# Altium schematic symbol library Wurth_Elektronik_Electromechanic_Wire_to_Board_Connectors_rev16a.SCHLIB: 662 symbols (part 5 of 10)
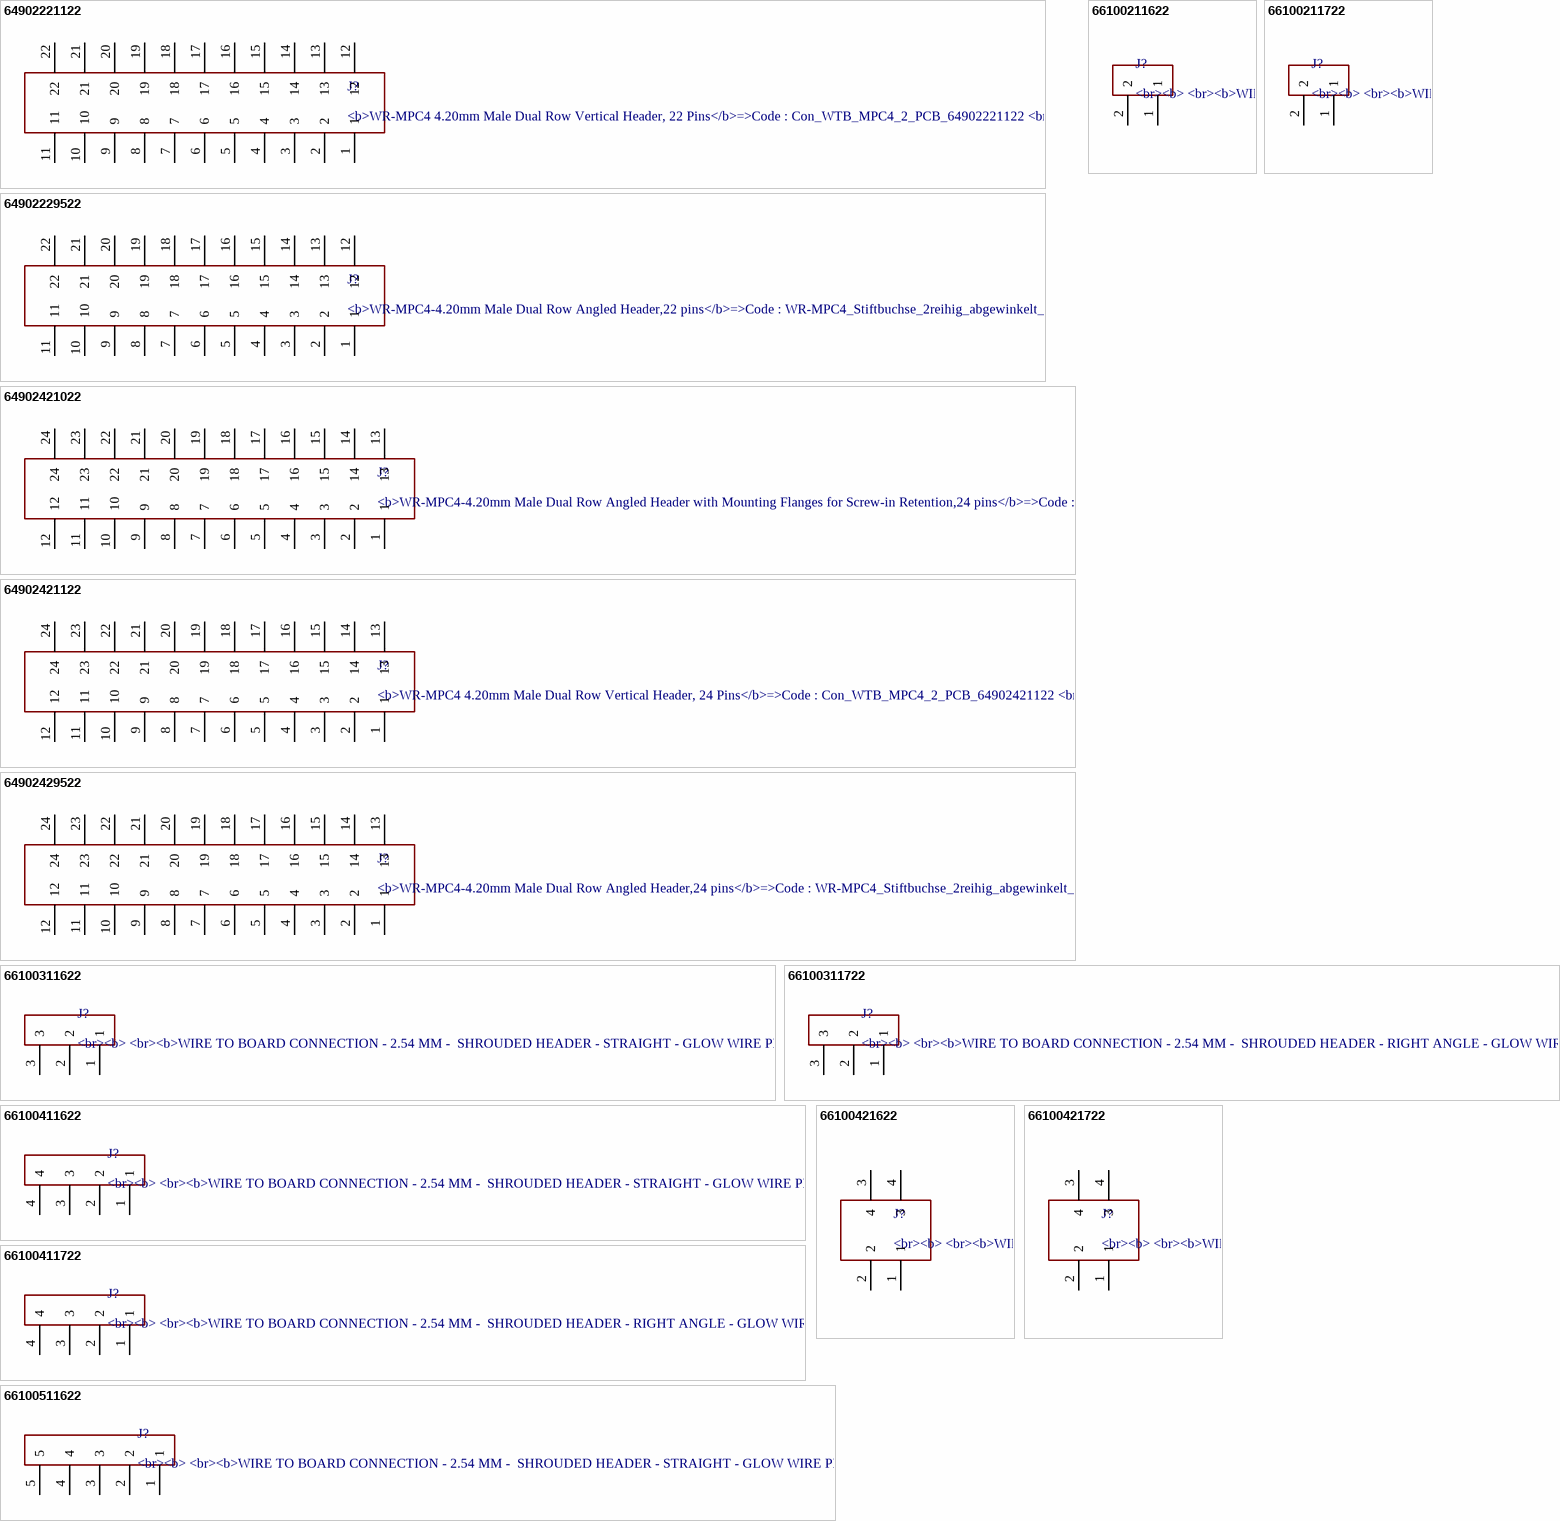
[diagram p66: symbols 64902221122 to 66100511622]

## 64902221122
designator J?, comment <b>WR-MPC4 4.20mm Male Dual Row Vertical Header, 22 Pins</b>=>Code : Con_WTB_MPC4_2_PCB_64902221122 / <br><a href="http://katalog.we-online.de/media/thumbs2/eican/thb_Con_WTB_MPC4_2_PCB_6490xx21122_pf2.jpg" title="Enlarge picture"> / <img src="http://katalog.we-online.de/media/thumbs2/eican/thb_Con_WTB_MPC4_2_PCB_6490xx21122_pf2.jpg"  width="320"></a><p> / Details see: <a href="http://katalog.we-online.de/en/em/649_0xx_211_22">http://katalog.we-online.de/en/em/649_0xx_211_22</a><p> / Created 2014-06-06, Karrer Zheng<br> / 2014 (C) Würth Elektronik
footprint 64902221122
pins: 1, 2, 3, 4, 5, 6, 7, 8, 9, 10, 11, 12, 13, 14, 15, 16, 17, 18, 19, 20, 21, 22

## 64902229522
designator J?, comment <b>WR-MPC4-4.20mm Male Dual Row Angled Header,22 pins</b>=>Code : WR-MPC4_Stiftbuchse_2reihig_abgewinkelt_64902229522 / <br><a href="http://katalog.we-online.de/media/thumbs2/eican/thb_WR-MPC4_Stiftbuchse_2reihig_abgewinkelt_64901029522.jpg" title="Enlarge picture"> / <img src="http://katalog.we-online.de/media/thumbs2/eican/thb_WR-MPC4_Stiftbuchse_2reihig_abgewinkelt_64901029522.jpg"  width="320"></a><p> / Details see: <a href="http://katalog.we-online.de/en/em/649_0xx_295_22">http://katalog.we-online.de/en/em/649_0xx_295_22</a><p> / Created 2014-06-06, Karrer Zheng<br> / 2014 (C) Würth Elektronik
footprint 64902229522
pins: 1, 2, 3, 4, 5, 6, 7, 8, 9, 10, 11, 12, 13, 14, 15, 16, 17, 18, 19, 20, 21, 22

## 64902421022
designator J?, comment <b>WR-MPC4-4.20mm Male Dual Row Angled Header with Mounting Flanges for Screw-in Retention,24 pins</b>=>Code : Con_WTB_MPC4_2_PCB_64902421022 / <br><a href="http://katalog.we-online.de/media/thumbs2/eican/thb_Con_WTB_MPC4_2_PCB_6490xx21022_pf2.jpg" title="Enlarge picture"> / <img src="http://katalog.we-online.de/media/thumbs2/eican/thb_Con_WTB_MPC4_2_PCB_6490xx21022_pf2.jpg"  width="320"></a><p> / Details see: <a href="http://katalog.we-online.de/en/em/649_0xx_210_22">http://katalog.we-online.de/en/em/649_0xx_210_22</a><p> / Created 2014-06-06, Karrer Zheng<br> / 2014 (C) Würth Elektronik
footprint 64902421022
pins: 1, 2, 3, 4, 5, 6, 7, 8, 9, 10, 11, 12, 13, 14, 15, 16, 17, 18, 19, 20, 21, 22, 23, 24

## 64902421122
designator J?, comment <b>WR-MPC4 4.20mm Male Dual Row Vertical Header, 24 Pins</b>=>Code : Con_WTB_MPC4_2_PCB_64902421122 / <br><a href="http://katalog.we-online.de/media/thumbs2/eican/thb_Con_WTB_MPC4_2_PCB_6490xx21122_pf2.jpg" title="Enlarge picture"> / <img src="http://katalog.we-online.de/media/thumbs2/eican/thb_Con_WTB_MPC4_2_PCB_6490xx21122_pf2.jpg"  width="320"></a><p> / Details see: <a href="http://katalog.we-online.de/en/em/649_0xx_211_22">http://katalog.we-online.de/en/em/649_0xx_211_22</a><p> / Created 2014-06-06, Karrer Zheng<br> / 2014 (C) Würth Elektronik
footprint 64902421122
pins: 1, 2, 3, 4, 5, 6, 7, 8, 9, 10, 11, 12, 13, 14, 15, 16, 17, 18, 19, 20, 21, 22, 23, 24

## 64902429522
designator J?, comment <b>WR-MPC4-4.20mm Male Dual Row Angled Header,24 pins</b>=>Code : WR-MPC4_Stiftbuchse_2reihig_abgewinkelt_64902429522 / <br><a href="http://katalog.we-online.de/media/thumbs2/eican/thb_WR-MPC4_Stiftbuchse_2reihig_abgewinkelt_64901029522.jpg" title="Enlarge picture"> / <img src="http://katalog.we-online.de/media/thumbs2/eican/thb_WR-MPC4_Stiftbuchse_2reihig_abgewinkelt_64901029522.jpg"  width="320"></a><p> / Details see: <a href="http://katalog.we-online.de/en/em/649_0xx_295_22">http://katalog.we-online.de/en/em/649_0xx_295_22</a><p> / Created 2014-06-06, Karrer Zheng<br> / 2014 (C) Würth Elektronik
footprint 64902429522
pins: 1, 2, 3, 4, 5, 6, 7, 8, 9, 10, 11, 12, 13, 14, 15, 16, 17, 18, 19, 20, 21, 22, 23, 24

## 66100211622
designator J?, comment <br><b> <br><b>WIRE TO BOARD CONNECTION - 2.54 MM - / SHROUDED HEADER - STRAIGHT - GLOW WIRE PLASTIC - WR-WTB<br></b>=>ConWTB254 66100211622 / <br> / <br> / <br><b> Characteristics / <br><br></b></b>INSULATOR: PA46G15 / <br>FLAMMABILITY RATING: UL94V0 / <br>COLOR: BLACK / <br>METAL: PHOSPHOR BRONZE / <br>PLATING: TIN OVER Ni / <br>QUALITY CLASS: 25 MATING CYCLES / <br>OPERATING TEMPERATURE:-40°C UP TO +125°C / <br>COMPLIANCE: LEAD FREE AND ROHS / <br> / <br> / <br> / <br><b> ELECTRICAL / <br><br></b></b>CURRENT RATING: 3 A / <br>WORKING VOLTAGE: 50 VAC / <br>WITHSTANDING VOLTAGE: 500 VAC/MIN / <br>INSULATION RESISTANCE: >1000 MΩ / <br>CONTACT RESISTANCE: 20 mΩ MAX / <br> / <br><br><a href="http://katalog.we-online.de/media/images/v2/Family_WR-WTB_6610xx11622_2%2054.jpg" title="Enlarge picture"> / <img src="http://katalog.we-online.de/media/images/v2/Family_WR-WTB_6610xx11622_2%2054.jpg"  width="320"></a><p> / <br> / Details see: <a href="http://katalog.we-online.de/en/em/WTB_2_54_MALE_HORIZONTAL_SHROUDED_HEADER_GLOW_WIRE_PLASTIC_6610XXX1622">http://katalog.we-online.de/en/em/WTB_2_54_MALE_HORIZONTAL_SHROUDED_HEADER_GLOW_WIRE_PLASTIC_6610XXX1622</a><p> / <br></b>2015 (C) Wurth Elektronik
footprint 66100211622
pins: 1, 2

## 66100211722
designator J?, comment <br><b> <br><b>WIRE TO BOARD CONNECTION - 2.54 MM - / SHROUDED HEADER - RIGHT ANGLE - GLOW WIRE PLASTIC - WR-WTB<br></b>=>ConWTB254 66100211722 / <br> / <br> / <br><b> Characteristics / <br><br></b></b>INSULATOR: PA46G15 / <br>FLAMMABILITY RATING: UL94V0 / <br>COLOR: BLACK / <br>METAL: PHOSPHOR BRONZE / <br>PLATING: TIN OVER Ni / <br>QUALITY CLASS: 25 MATING CYCLES / <br>OPERATING TEMPERATURE:-40°C UP TO +125°C / <br>COMPLIANCE: LEAD FREE AND ROHS / <br> / <br> / <br> / <br><b> ELECTRICAL / <br><br></b></b>CURRENT RATING: 3 A / <br>WORKING VOLTAGE: 50 VAC / <br>WITHSTANDING VOLTAGE: 500 VAC/MIN / <br>INSULATION RESISTANCE: >1000 MΩ / <br>CONTACT RESISTANCE: 20 mΩ MAX / <br> / <br> / <br><a href="http://katalog.we-online.de/media/images/v2/Family_WR-WTB_Vertical_Shrouded_Header_6610xx11722_2.jpg" title="Enlarge picture"> / <img src="http://katalog.we-online.de/media/images/v2/Family_WR-WTB_Vertical_Shrouded_Header_6610xx11722_2.jpg"  width="320"></a><p> / Details see: <a href="http://katalog.we-online.de/en/em/WTB_2_54_MALE_VERTICAL_SHROUDED_HEADER_GLOW_WIRE_PLASTIC_6610XXX1722">http://katalog.we-online.de/en/em/WTB_2_54_MALE_VERTICAL_SHROUDED_HEADER_GLOW_WIRE_PLASTIC_6610XXX1722</a><p> / <br></b>2015 (C) Wurth Elektronik
footprint 66100211722
pins: 1, 2

## 66100311622
designator J?, comment <br><b> <br><b>WIRE TO BOARD CONNECTION - 2.54 MM - / SHROUDED HEADER - STRAIGHT - GLOW WIRE PLASTIC - WR-WTB<br></b>=>ConWTB254 661003116222 / <br> / <br> / <br><b> Characteristics / <br><br></b></b>INSULATOR: PA46G15 / <br>FLAMMABILITY RATING: UL94V0 / <br>COLOR: BLACK / <br>METAL: PHOSPHOR BRONZE / <br>PLATING: TIN OVER Ni / <br>QUALITY CLASS: 25 MATING CYCLES / <br>OPERATING TEMPERATURE:-40°C UP TO +125°C / <br>COMPLIANCE: LEAD FREE AND ROHS / <br> / <br> / <br> / <br><b> ELECTRICAL / <br><br></b></b>CURRENT RATING: 3 A / <br>WORKING VOLTAGE: 50 VAC / <br>WITHSTANDING VOLTAGE: 500 VAC/MIN / <br>INSULATION RESISTANCE: >1000 MΩ / <br>CONTACT RESISTANCE: 20 mΩ MAX / <br><br><a href="http://katalog.we-online.de/media/images/v2/Family_WR-WTB_6610xx11622_2%2054.jpg" title="Enlarge picture"> / <img src="http://katalog.we-online.de/media/images/v2/Family_WR-WTB_6610xx11622_2%2054.jpg"  width="320"></a><p> / <br> / Details see: <a href="http://katalog.we-online.de/en/em/WTB_2_54_MALE_HORIZONTAL_SHROUDED_HEADER_GLOW_WIRE_PLASTIC_6610XXX1622">http://katalog.we-online.de/en/em/WTB_2_54_MALE_HORIZONTAL_SHROUDED_HEADER_GLOW_WIRE_PLASTIC_6610XXX1622</a><p> / <br></b>2015 (C) Wurth Elektronik
footprint 66100311622
pins: 1, 2, 3

## 66100311722
designator J?, comment <br><b> <br><b>WIRE TO BOARD CONNECTION - 2.54 MM - / SHROUDED HEADER - RIGHT ANGLE - GLOW WIRE PLASTIC - WR-WTB<br></b>=>ConWTB254 66100311722 / <br> / <br> / <br><b> Characteristics / <br><br></b></b>INSULATOR: PA46G15 / <br>FLAMMABILITY RATING: UL94V0 / <br>COLOR: BLACK / <br>METAL: PHOSPHOR BRONZE / <br>PLATING: TIN OVER Ni / <br>QUALITY CLASS: 25 MATING CYCLES / <br>OPERATING TEMPERATURE:-40°C UP TO +125°C / <br>COMPLIANCE: LEAD FREE AND ROHS / <br> / <br> / <br> / <br><b> ELECTRICAL / <br><br></b></b>CURRENT RATING: 3 A / <br>WORKING VOLTAGE: 50 VAC / <br>WITHSTANDING VOLTAGE: 500 VAC/MIN / <br>INSULATION RESISTANCE: >1000 MΩ / <br>CONTACT RESISTANCE: 20 mΩ MAX / <br> / <br> / <br><a href="http://katalog.we-online.de/media/images/v2/Family_WR-WTB_Vertical_Shrouded_Header_6610xx11722_2.jpg" title="Enlarge picture"> / <img src="http://katalog.we-online.de/media/images/v2/Family_WR-WTB_Vertical_Shrouded_Header_6610xx11722_2.jpg"  width="320"></a><p> / Details see: <a href="http://katalog.we-online.de/en/em/WTB_2_54_MALE_VERTICAL_SHROUDED_HEADER_GLOW_WIRE_PLASTIC_6610XXX1722">http://katalog.we-online.de/en/em/WTB_2_54_MALE_VERTICAL_SHROUDED_HEADER_GLOW_WIRE_PLASTIC_6610XXX1722</a><p> / <br></b>2015 (C) Wurth Elektronik
footprint 66100311722
pins: 1, 2, 3

## 66100411622
designator J?, comment <br><b> <br><b>WIRE TO BOARD CONNECTION - 2.54 MM - / SHROUDED HEADER - STRAIGHT - GLOW WIRE PLASTIC - WR-WTB<br></b>=>ConWTB254 661004116222 / <br> / <br> / <br><b> Characteristics / <br><br></b></b>INSULATOR: PA46G15 / <br>FLAMMABILITY RATING: UL94V0 / <br>COLOR: BLACK / <br>METAL: PHOSPHOR BRONZE / <br>PLATING: TIN OVER Ni / <br>QUALITY CLASS: 25 MATING CYCLES / <br>OPERATING TEMPERATURE:-40°C UP TO +125°C / <br>COMPLIANCE: LEAD FREE AND ROHS / <br> / <br> / <br> / <br><b> ELECTRICAL / <br><br></b></b>CURRENT RATING: 3 A / <br>WORKING VOLTAGE: 50 VAC / <br>WITHSTANDING VOLTAGE: 500 VAC/MIN / <br>INSULATION RESISTANCE: >1000 MΩ / <br>CONTACT RESISTANCE: 20 mΩ MAX / <br><br><a href="http://katalog.we-online.de/media/images/v2/Family_WR-WTB_6610xx11622_2%2054.jpg" title="Enlarge picture"> / <img src="http://katalog.we-online.de/media/images/v2/Family_WR-WTB_6610xx11622_2%2054.jpg"  width="320"></a><p> / <br> / <br>Details see: <a href="http://katalog.we-online.de/en/em/WTB_2_54_MALE_HORIZONTAL_SHROUDED_HEADER_GLOW_WIRE_PLASTIC_6610XXX1622">http://katalog.we-online.de/en/em/WTB_2_54_MALE_HORIZONTAL_SHROUDED_HEADER_GLOW_WIRE_PLASTIC_6610XXX1622</a><p> / <br></b>2015 (C) Wurth Elektronik
footprint 66100411622
pins: 1, 2, 3, 4

## 66100411722
designator J?, comment <br><b> <br><b>WIRE TO BOARD CONNECTION - 2.54 MM - / SHROUDED HEADER - RIGHT ANGLE - GLOW WIRE PLASTIC - WR-WTB<br></b>=>ConWTB254 66100411722 / <br> / <br> / <br><b> Characteristics / <br><br></b></b>INSULATOR: PA46G15 / <br>FLAMMABILITY RATING: UL94V0 / <br>COLOR: BLACK / <br>METAL: PHOSPHOR BRONZE / <br>PLATING: TIN OVER Ni / <br>QUALITY CLASS: 25 MATING CYCLES / <br>OPERATING TEMPERATURE:-40°C UP TO +125°C / <br>COMPLIANCE: LEAD FREE AND ROHS / <br> / <br> / <br> / <br><b> ELECTRICAL / <br><br></b></b>CURRENT RATING: 3 A / <br>WORKING VOLTAGE: 50 VAC / <br>WITHSTANDING VOLTAGE: 500 VAC/MIN / <br>INSULATION RESISTANCE: >1000 MΩ / <br>CONTACT RESISTANCE: 20 mΩ MAX / <br> / <br> / <br><a href="http://katalog.we-online.de/media/images/v2/Family_WR-WTB_Vertical_Shrouded_Header_6610xx11722_2.jpg" title="Enlarge picture"> / <img src="http://katalog.we-online.de/media/images/v2/Family_WR-WTB_Vertical_Shrouded_Header_6610xx11722_2.jpg"  width="320"></a><p> / Details see: <a href="http://katalog.we-online.de/en/em/WTB_2_54_MALE_VERTICAL_SHROUDED_HEADER_GLOW_WIRE_PLASTIC_6610XXX1722">http://katalog.we-online.de/en/em/WTB_2_54_MALE_VERTICAL_SHROUDED_HEADER_GLOW_WIRE_PLASTIC_6610XXX1722</a><p> / <br></b>2015 (C) Wurth Elektronik
footprint 66100411722
pins: 1, 2, 3, 4

## 66100421622
designator J?, comment <br><b> <br><b>WIRE TO BOARD CONNECTION - 2.54 MM - / SHROUDED HEADER - STRAIGHT - GLOW WIRE PLASTIC - WR-WTB<br></b>=>ConWTB254 66100421622 / <br> / <br> / <br><b> Characteristics / <br><br></b></b>INSULATOR: PA46G15 / <br>FLAMMABILITY RATING: UL94V0 / <br>COLOR: BLACK / <br>METAL: PHOSPHOR BRONZE / <br>PLATING: TIN OVER Ni / <br>QUALITY CLASS: 25 MATING CYCLES / <br>OPERATING TEMPERATURE:-40°C UP TO +125°C / <br>COMPLIANCE: LEAD FREE AND ROHS / <br> / <br> / <br> / <br><b> ELECTRICAL / <br><br></b></b>CURRENT RATING: 3 A / <br>WORKING VOLTAGE: 50 VAC / <br>WITHSTANDING VOLTAGE: 500 VAC/MIN / <br>INSULATION RESISTANCE: >1000 MΩ / <br>CONTACT RESISTANCE: 20 mΩ MAX / <br> / <br> / <br> / Details see: <a href="http://katalog.we-online.de/en/em/WTB_2_54_MALE_HORIZONTAL_SHROUDED_HEADER_GLOW_WIRE_PLASTIC_6610XXX1622">http://katalog.we-online.de/en/em/WTB_2_54_MALE_HORIZONTAL_SHROUDED_HEADER_GLOW_WIRE_PLASTIC_6610XXX1622</a><p> / <br></b>2015 (C) Wurth Elektronik
footprint 66100421622
pins: 1, 2, 3 4, 4 3

## 66100421722
designator J?, comment <br><b> <br><b>WIRE TO BOARD CONNECTION - 2.54 MM - / SHROUDED HEADER - RIGHT ANGLE - GLOW WIRE PLASTIC - WR-WTB<br></b>=>ConWTB254 66100421722 / <br> / <br> / <br><b> Characteristics / <br><br></b></b>INSULATOR: PA46G15 / <br>FLAMMABILITY RATING: UL94V0 / <br>COLOR: BLACK / <br>METAL: PHOSPHOR BRONZE / <br>PLATING: TIN OVER Ni / <br>QUALITY CLASS: 25 MATING CYCLES / <br>OPERATING TEMPERATURE:-40°C UP TO +125°C / <br>COMPLIANCE: LEAD FREE AND ROHS / <br> / <br> / <br> / <br><b> ELECTRICAL / <br><br></b></b>CURRENT RATING: 3 A / <br>WORKING VOLTAGE: 50 VAC / <br>WITHSTANDING VOLTAGE: 500 VAC/MIN / <br>INSULATION RESISTANCE: >1000 MΩ / <br>CONTACT RESISTANCE: 20 mΩ MAX / <br><a href="http://katalog.we-online.de/media/images/v2/Family_WR-WTB_Vertical_Shrouded_Header_6610xx11722_2.jpg" title="Enlarge picture"> / <img src="http://katalog.we-online.de/media/images/v2/Family_WR-WTB_Vertical_Shrouded_Header_6610xx11722_2.jpg"  width="320"></a><p> / Details see: <a href="http://katalog.we-online.de/en/em/WTB_2_54_MALE_VERTICAL_SHROUDED_HEADER_GLOW_WIRE_PLASTIC_6610XXX1722/66100421722">http://katalog.we-online.de/en/em/WTB_2_54_MALE_VERTICAL_SHROUDED_HEADER_GLOW_WIRE_PLASTIC_6610XXX1722/66100421722</a><p> / <br></b>2015 (C) Wurth Elektronik
footprint 66100421722
pins: 1, 2, 3 4, 4 3

## 66100511622
designator J?, comment <br><b> <br><b>WIRE TO BOARD CONNECTION - 2.54 MM - / SHROUDED HEADER - STRAIGHT - GLOW WIRE PLASTIC - WR-WTB<br></b>=>ConWTB254 661005116222 / <br> / <br> / <br><b> Characteristics / <br><br></b></b>INSULATOR: PA46G15 / <br>FLAMMABILITY RATING: UL94V0 / <br>COLOR: BLACK / <br>METAL: PHOSPHOR BRONZE / <br>PLATING: TIN OVER Ni / <br>QUALITY CLASS: 25 MATING CYCLES / <br>OPERATING TEMPERATURE:-40°C UP TO +125°C / <br>COMPLIANCE: LEAD FREE AND ROHS / <br> / <br> / <br> / <br><b> ELECTRICAL / <br><br></b></b>CURRENT RATING: 3 A / <br>WORKING VOLTAGE: 50 VAC / <br>WITHSTANDING VOLTAGE: 500 VAC/MIN / <br>INSULATION RESISTANCE: >1000 MΩ / <br>CONTACT RESISTANCE: 20 mΩ MAX / <br> / <br><br><a href="http://katalog.we-online.de/media/images/v2/Family_WR-WTB_6610xx11622_2%2054.jpg" title="Enlarge picture"> / <img src="http://katalog.we-online.de/media/images/v2/Family_WR-WTB_6610xx11622_2%2054.jpg"  width="320"></a><p> / <br> / <br> / <br>Details see: <a href="http://katalog.we-online.de/en/em/WTB_2_54_MALE_HORIZONTAL_SHROUDED_HEADER_GLOW_WIRE_PLASTIC_6610XXX1622">http://katalog.we-online.de/en/em/WTB_2_54_MALE_HORIZONTAL_SHROUDED_HEADER_GLOW_WIRE_PLASTIC_6610XXX1622</a><p> / <br></b>2015 (C) Wurth Elektronik
footprint 66100511622
pins: 1, 2, 3, 4, 5

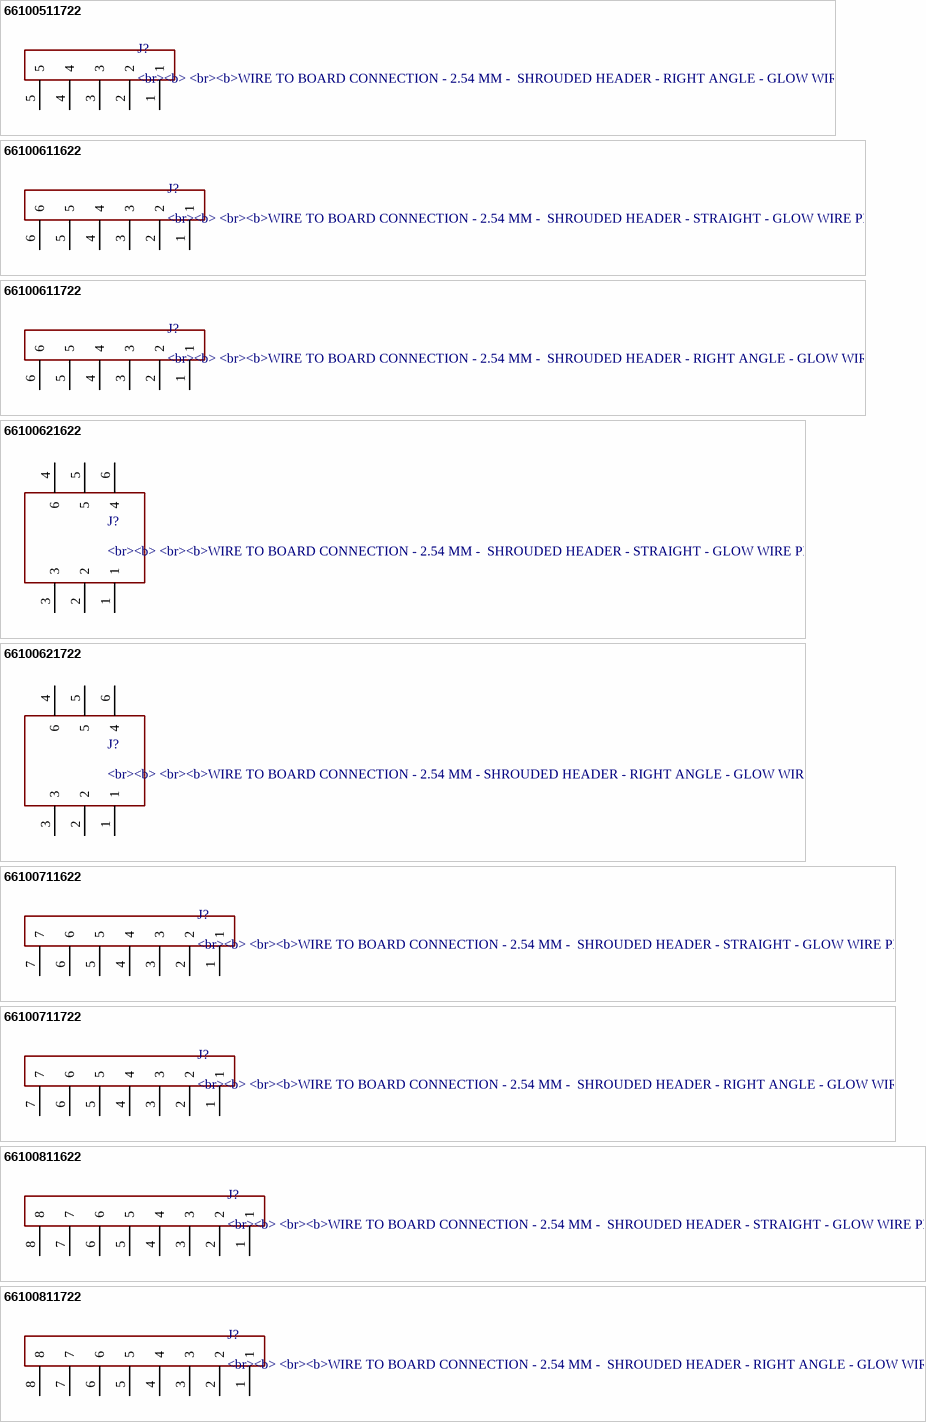
[diagram p29: symbols 66100511722 to 66100811722]

## 66100511722
designator J?, comment <br><b> <br><b>WIRE TO BOARD CONNECTION - 2.54 MM - / SHROUDED HEADER - RIGHT ANGLE - GLOW WIRE PLASTIC - WR-WTB<br></b>=>ConWTB254 66100511722 / <br> / <br> / <br><b> Characteristics / <br><br></b></b>INSULATOR: PA46G15 / <br>FLAMMABILITY RATING: UL94V0 / <br>COLOR: BLACK / <br>METAL: PHOSPHOR BRONZE / <br>PLATING: TIN OVER Ni / <br>QUALITY CLASS: 25 MATING CYCLES / <br>OPERATING TEMPERATURE:-40°C UP TO +125°C / <br>COMPLIANCE: LEAD FREE AND ROHS / <br> / <br> / <br> / <br><b> ELECTRICAL / <br><br></b></b>CURRENT RATING: 3 A / <br>WORKING VOLTAGE: 50 VAC / <br>WITHSTANDING VOLTAGE: 500 VAC/MIN / <br>INSULATION RESISTANCE: >1000 MΩ / <br>CONTACT RESISTANCE: 20 mΩ MAX / <br> / <br> / <br><a href="http://katalog.we-online.de/media/images/v2/Family_WR-WTB_Vertical_Shrouded_Header_6610xx11722_2.jpg" title="Enlarge picture"> / <img src="http://katalog.we-online.de/media/images/v2/Family_WR-WTB_Vertical_Shrouded_Header_6610xx11722_2.jpg"  width="320"></a><p> / Details see: <a href="http://katalog.we-online.de/en/em/WTB_2_54_MALE_VERTICAL_SHROUDED_HEADER_GLOW_WIRE_PLASTIC_6610XXX1722">http://katalog.we-online.de/en/em/WTB_2_54_MALE_VERTICAL_SHROUDED_HEADER_GLOW_WIRE_PLASTIC_6610XXX1722</a><p> / <br></b>2015 (C) Wurth Elektronik
footprint 66100511722
pins: 1, 2, 3, 4, 5

## 66100611622
designator J?, comment <br><b> <br><b>WIRE TO BOARD CONNECTION - 2.54 MM - / SHROUDED HEADER - STRAIGHT - GLOW WIRE PLASTIC - WR-WTB<br></b>=>ConWTB254 661006116222 / <br> / <br> / <br><b> Characteristics / <br><br></b></b>INSULATOR: PA46G15 / <br>FLAMMABILITY RATING: UL94V0 / <br>COLOR: BLACK / <br>METAL: PHOSPHOR BRONZE / <br>PLATING: TIN OVER Ni / <br>QUALITY CLASS: 25 MATING CYCLES / <br>OPERATING TEMPERATURE:-40°C UP TO +125°C / <br>COMPLIANCE: LEAD FREE AND ROHS / <br> / <br> / <br> / <br><b> ELECTRICAL / <br><br></b></b>CURRENT RATING: 3 A / <br>WORKING VOLTAGE: 50 VAC / <br>WITHSTANDING VOLTAGE: 500 VAC/MIN / <br>INSULATION RESISTANCE: >1000 MΩ / <br>CONTACT RESISTANCE: 20 mΩ MAX / <br><br><br><a href="http://katalog.we-online.de/media/images/v2/Family_WR-WTB_6610xx11622_2%2054.jpg" title="Enlarge picture"> / <img src="http://katalog.we-online.de/media/images/v2/Family_WR-WTB_6610xx11622_2%2054.jpg"  width="320"></a><p> / <br> / <br> / <br>Details see: <a href="http://katalog.we-online.de/en/em/WTB_2_54_MALE_HORIZONTAL_SHROUDED_HEADER_GLOW_WIRE_PLASTIC_6610XXX1622">http://katalog.we-online.de/en/em/WTB_2_54_MALE_HORIZONTAL_SHROUDED_HEADER_GLOW_WIRE_PLASTIC_6610XXX1622</a><p> / <br></b>2015 (C) Wurth Elektronik
footprint 66100611622
pins: 1, 2, 3, 4, 5, 6

## 66100611722
designator J?, comment <br><b> <br><b>WIRE TO BOARD CONNECTION - 2.54 MM - / SHROUDED HEADER - RIGHT ANGLE - GLOW WIRE PLASTIC - WR-WTB<br></b>=>ConWTB254 66100611722 / <br> / <br> / <br><b> Characteristics / <br><br></b></b>INSULATOR: PA46G15 / <br>FLAMMABILITY RATING: UL94V0 / <br>COLOR: BLACK / <br>METAL: PHOSPHOR BRONZE / <br>PLATING: TIN OVER Ni / <br>QUALITY CLASS: 25 MATING CYCLES / <br>OPERATING TEMPERATURE:-40°C UP TO +125°C / <br>COMPLIANCE: LEAD FREE AND ROHS / <br> / <br> / <br> / <br><b> ELECTRICAL / <br><br></b></b>CURRENT RATING: 3 A / <br>WORKING VOLTAGE: 50 VAC / <br>WITHSTANDING VOLTAGE: 500 VAC/MIN / <br>INSULATION RESISTANCE: >1000 MΩ / <br>CONTACT RESISTANCE: 20 mΩ MAX / <br> / <br> / <br><a href="http://katalog.we-online.de/media/images/v2/Family_WR-WTB_Vertical_Shrouded_Header_6610xx11722_2.jpg" title="Enlarge picture"> / <img src="http://katalog.we-online.de/media/images/v2/Family_WR-WTB_Vertical_Shrouded_Header_6610xx11722_2.jpg"  width="320"></a><p> / Details see: <a href="http://katalog.we-online.de/en/em/WTB_2_54_MALE_VERTICAL_SHROUDED_HEADER_GLOW_WIRE_PLASTIC_6610XXX1722">http://katalog.we-online.de/en/em/WTB_2_54_MALE_VERTICAL_SHROUDED_HEADER_GLOW_WIRE_PLASTIC_6610XXX1722</a><p> / <br></b>2015 (C) Wurth Elektronik
footprint 66100611722
pins: 1, 2, 3, 4, 5, 6

## 66100621622
designator J?, comment <br><b> <br><b>WIRE TO BOARD CONNECTION - 2.54 MM - / SHROUDED HEADER - STRAIGHT - GLOW WIRE PLASTIC - WR-WTB<br></b>=>ConWTB254 66100621622 / <br> / <br> / <br><b> Characteristics / <br><br></b></b>INSULATOR: PA46G15 / <br>FLAMMABILITY RATING: UL94V0 / <br>COLOR: BLACK / <br>METAL: PHOSPHOR BRONZE / <br>PLATING: TIN OVER Ni / <br>QUALITY CLASS: 25 MATING CYCLES / <br>OPERATING TEMPERATURE:-40°C UP TO +125°C / <br>COMPLIANCE: LEAD FREE AND ROHS / <br> / <br> / <br> / <br><b> ELECTRICAL / <br><br></b></b>CURRENT RATING: 3 A / <br>WORKING VOLTAGE: 50 VAC / <br>WITHSTANDING VOLTAGE: 500 VAC/MIN / <br>INSULATION RESISTANCE: >1000 MΩ / <br>CONTACT RESISTANCE: 20 mΩ MAX / <br> / <br> / <br>Details see: <a href="http://katalog.we-online.de/en/em/WTB_2_54_MALE_HORIZONTAL_SHROUDED_HEADER_GLOW_WIRE_PLASTIC_6610XXX1622">http://katalog.we-online.de/en/em/WTB_2_54_MALE_HORIZONTAL_SHROUDED_HEADER_GLOW_WIRE_PLASTIC_6610XXX1622</a><p> / <br></b>2015 (C) Wurth Elektronik
footprint 66100621622
pins: 1, 2, 3, 4 6, 5, 6 4

## 66100621722
designator J?, comment <br><b> <br><b>WIRE TO BOARD CONNECTION - 2.54 MM - / SHROUDED HEADER - RIGHT ANGLE - GLOW WIRE PLASTIC - WR-WTB<br></b>=>ConWTB254 66100621722 / <br> / <br> / <br><b> Characteristics / <br><br></b></b>INSULATOR: PA46G15 / <br>FLAMMABILITY RATING: UL94V0 / <br>COLOR: BLACK / <br>METAL: PHOSPHOR BRONZE / <br>PLATING: TIN OVER Ni / <br>QUALITY CLASS: 25 MATING CYCLES / <br>OPERATING TEMPERATURE:-40°C UP TO +125°C / <br>COMPLIANCE: LEAD FREE AND ROHS / <br> / <br> / <br> / <br><b> ELECTRICAL / <br><br></b></b>CURRENT RATING: 3 A / <br>WORKING VOLTAGE: 50 VAC / <br>WITHSTANDING VOLTAGE: 500 VAC/MIN / <br>INSULATION RESISTANCE: >1000 MΩ / <br>CONTACT RESISTANCE: 20 mΩ MAX / <br> / <br> / <br><a href="http://katalog.we-online.de/media/images/v2/Family_WR-WTB_Vertical_Shrouded_Header_6610xx11722_2.jpg" title="Enlarge picture"> / <img src="http://katalog.we-online.de/media/images/v2/Family_WR-WTB_Vertical_Shrouded_Header_6610xx11722_2.jpg"  width="320"></a><p> / Details see: <a href="http://katalog.we-online.de/en/em/WTB_2_54_MALE_VERTICAL_SHROUDED_HEADER_GLOW_WIRE_PLASTIC_6610XXX1722">http://katalog.we-online.de/en/em/WTB_2_54_MALE_VERTICAL_SHROUDED_HEADER_GLOW_WIRE_PLASTIC_6610XXX1722</a><p> / <br></b>2015 (C) Wurth Elektronik
footprint 66100621722
pins: 1, 2, 3, 4 6, 5, 6 4

## 66100711622
designator J?, comment <br><b> <br><b>WIRE TO BOARD CONNECTION - 2.54 MM - / SHROUDED HEADER - STRAIGHT - GLOW WIRE PLASTIC - WR-WTB<br></b>=>ConWTB254 661007116222 / <br> / <br> / <br><b> Characteristics / <br><br></b></b>INSULATOR: PA46G15 / <br>FLAMMABILITY RATING: UL94V0 / <br>COLOR: BLACK / <br>METAL: PHOSPHOR BRONZE / <br>PLATING: TIN OVER Ni / <br>QUALITY CLASS: 25 MATING CYCLES / <br>OPERATING TEMPERATURE:-40°C UP TO +125°C / <br>COMPLIANCE: LEAD FREE AND ROHS / <br> / <br> / <br> / <br><b> ELECTRICAL / <br><br></b></b>CURRENT RATING: 3 A / <br>WORKING VOLTAGE: 50 VAC / <br>WITHSTANDING VOLTAGE: 500 VAC/MIN / <br>INSULATION RESISTANCE: >1000 MΩ / <br>CONTACT RESISTANCE: 20 mΩ MAX / <br> / <br><br><br><a href="http://katalog.we-online.de/media/images/v2/Family_WR-WTB_6610xx11622_2%2054.jpg" title="Enlarge picture"> / <img src="http://katalog.we-online.de/media/images/v2/Family_WR-WTB_6610xx11622_2%2054.jpg"  width="320"></a><p> / <br> / <br>Details see: <a href="http://katalog.we-online.de/en/em/WTB_2_54_MALE_HORIZONTAL_SHROUDED_HEADER_GLOW_WIRE_PLASTIC_6610XXX1622">http://katalog.we-online.de/en/em/WTB_2_54_MALE_HORIZONTAL_SHROUDED_HEADER_GLOW_WIRE_PLASTIC_6610XXX1622</a><p> / <br></b>2015 (C) Wurth Elektronik
footprint 66100711622
pins: 1, 2, 3, 4, 5, 6, 7

## 66100711722
designator J?, comment <br><b> <br><b>WIRE TO BOARD CONNECTION - 2.54 MM - / SHROUDED HEADER - RIGHT ANGLE - GLOW WIRE PLASTIC - WR-WTB<br></b>=>ConWTB254 66100711722 / <br> / <br> / <br><b> Characteristics / <br><br></b></b>INSULATOR: PA46G15 / <br>FLAMMABILITY RATING: UL94V0 / <br>COLOR: BLACK / <br>METAL: PHOSPHOR BRONZE / <br>PLATING: TIN OVER Ni / <br>QUALITY CLASS: 25 MATING CYCLES / <br>OPERATING TEMPERATURE:-40°C UP TO +125°C / <br>COMPLIANCE: LEAD FREE AND ROHS / <br> / <br> / <br> / <br><b> ELECTRICAL / <br><br></b></b>CURRENT RATING: 3 A / <br>WORKING VOLTAGE: 50 VAC / <br>WITHSTANDING VOLTAGE: 500 VAC/MIN / <br>INSULATION RESISTANCE: >1000 MΩ / <br>CONTACT RESISTANCE: 20 mΩ MAX / <br></b>2015 (C) Wurth Elektronik / <br><br></b></b>CURRENT RATING: 3 A / <br>WITHSTANDING VOLTAGE: 500 VAC / <br>CONTACT RESISTANCE: 20 mΩ MAX / <br> / <br> / <br><a href="http://katalog.we-online.de/media/images/v2/Family_WR-WTB_Vertical_Shrouded_Header_6610xx11722_2.jpg" title="Enlarge picture"> / <img src="http://katalog.we-online.de/media/images/v2/Family_WR-WTB_Vertical_Shrouded_Header_6610xx11722_2.jpg"  width="320"></a><p> / Details see: <a href="http://katalog.we-online.de/en/em/WTB_2_54_MALE_VERTICAL_SHROUDED_HEADER_GLOW_WIRE_PLASTIC_6610XXX1722">http://katalog.we-online.de/en/em/WTB_2_54_MALE_VERTICAL_SHROUDED_HEADER_GLOW_WIRE_PLASTIC_6610XXX1722</a><p> / <br></b>2015 (C) Wurth Elektronik
footprint 66100711722
pins: 1, 2, 3, 4, 5, 6, 7

## 66100811622
designator J?, comment <br><b> <br><b>WIRE TO BOARD CONNECTION - 2.54 MM - / SHROUDED HEADER - STRAIGHT - GLOW WIRE PLASTIC - WR-WTB<br></b>=>ConWTB254 661008116222 / <br> / <br> / <br><b> Characteristics / <br><br></b></b>INSULATOR: PA46G15 / <br>FLAMMABILITY RATING: UL94V0 / <br>COLOR: BLACK / <br>METAL: PHOSPHOR BRONZE / <br>PLATING: TIN OVER Ni / <br>QUALITY CLASS: 25 MATING CYCLES / <br>OPERATING TEMPERATURE:-40°C UP TO +125°C / <br>COMPLIANCE: LEAD FREE AND ROHS / <br> / <br> / <br> / <br><b> ELECTRICAL / <br><br></b></b>CURRENT RATING: 3 A / <br>WORKING VOLTAGE: 50 VAC / <br>WITHSTANDING VOLTAGE: 500 VAC/MIN / <br>INSULATION RESISTANCE: >1000 MΩ / <br>CONTACT RESISTANCE: 20 mΩ MAX / <br><br><br><a href="http://katalog.we-online.de/media/images/v2/Family_WR-WTB_6610xx11622_2%2054.jpg" title="Enlarge picture"> / <img src="http://katalog.we-online.de/media/images/v2/Family_WR-WTB_6610xx11622_2%2054.jpg"  width="320"></a><p> / <br> / <br> / <br>Details see: <a href="http://katalog.we-online.de/en/em/WTB_2_54_MALE_HORIZONTAL_SHROUDED_HEADER_GLOW_WIRE_PLASTIC_6610XXX1622">http://katalog.we-online.de/en/em/WTB_2_54_MALE_HORIZONTAL_SHROUDED_HEADER_GLOW_WIRE_PLASTIC_6610XXX1622</a><p> / <br></b>2015 (C) Wurth Elektronik
footprint 66100811622
pins: 1, 2, 3, 4, 5, 6, 7, 8

## 66100811722
designator J?, comment <br><b> <br><b>WIRE TO BOARD CONNECTION - 2.54 MM - / SHROUDED HEADER - RIGHT ANGLE - GLOW WIRE PLASTIC - WR-WTB<br></b>=>ConWTB254 66100811722 / <br> / <br> / <br><b> Characteristics / <br><br></b></b>INSULATOR: PA46G15 / <br>FLAMMABILITY RATING: UL94V0 / <br>COLOR: BLACK / <br>METAL: PHOSPHOR BRONZE / <br>PLATING: TIN OVER Ni / <br>QUALITY CLASS: 25 MATING CYCLES / <br>OPERATING TEMPERATURE:-40°C UP TO +125°C / <br>COMPLIANCE: LEAD FREE AND ROHS / <br> / <br> / <br> / <br><b> ELECTRICAL / <br><br></b></b>CURRENT RATING: 3 A / <br>WORKING VOLTAGE: 50 VAC / <br>WITHSTANDING VOLTAGE: 500 VAC/MIN / <br>INSULATION RESISTANCE: >1000 MΩ / <br>CONTACT RESISTANCE: 20 mΩ MAX / <br> / <br> / <br><a href="http://katalog.we-online.de/media/images/v2/Family_WR-WTB_Vertical_Shrouded_Header_6610xx11722_2.jpg" title="Enlarge picture"> / <img src="http://katalog.we-online.de/media/images/v2/Family_WR-WTB_Vertical_Shrouded_Header_6610xx11722_2.jpg"  width="320"></a><p> / Details see: <a href="http://katalog.we-online.de/en/em/WTB_2_54_MALE_VERTICAL_SHROUDED_HEADER_GLOW_WIRE_PLASTIC_6610XXX1722">http://katalog.we-online.de/en/em/WTB_2_54_MALE_VERTICAL_SHROUDED_HEADER_GLOW_WIRE_PLASTIC_6610XXX1722</a><p> / <br></b>2015 (C) Wurth Elektronik
footprint 66100811722
pins: 1, 2, 3, 4, 5, 6, 7, 8

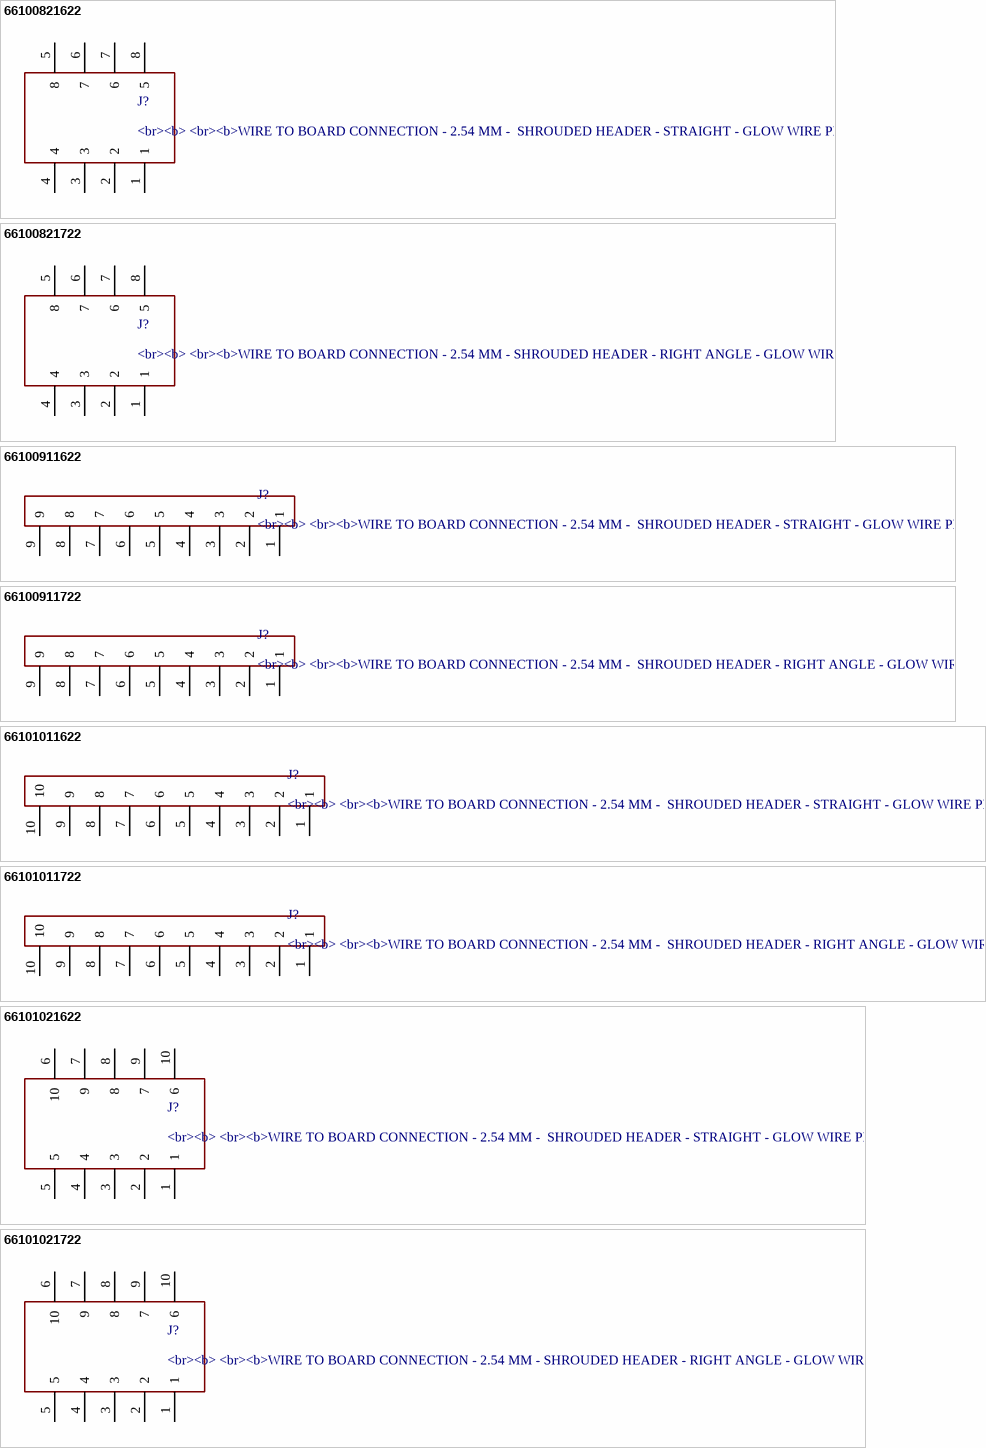
[diagram p30: symbols 66100821622 to 66101021722]

## 66100821622
designator J?, comment <br><b> <br><b>WIRE TO BOARD CONNECTION - 2.54 MM - / SHROUDED HEADER - STRAIGHT - GLOW WIRE PLASTIC - WR-WTB<br></b>=>ConWTB254 66100821622 / <br> / <br> / <br><b> Characteristics / <br><br></b></b>INSULATOR: PA46G15 / <br>FLAMMABILITY RATING: UL94V0 / <br>COLOR: BLACK / <br>METAL: PHOSPHOR BRONZE / <br>PLATING: TIN OVER Ni / <br>QUALITY CLASS: 25 MATING CYCLES / <br>OPERATING TEMPERATURE:-40°C UP TO +125°C / <br>COMPLIANCE: LEAD FREE AND ROHS / <br> / <br> / <br> / <br><b> ELECTRICAL / <br><br></b></b>CURRENT RATING: 3 A / <br>WORKING VOLTAGE: 50 VAC / <br>WITHSTANDING VOLTAGE: 500 VAC/MIN / <br>INSULATION RESISTANCE: >1000 MΩ / <br>CONTACT RESISTANCE: 20 mΩ MAX / <br> / <br><br><br><a href="http://katalog.we-online.de/media/images/v2/Family_WR-WTB_6610xx11622_2%2054.jpg" title="Enlarge picture"> / <img src="http://katalog.we-online.de/media/images/v2/Family_WR-WTB_6610xx11622_2%2054.jpg"  width="320"></a><p> / <br> / <br>Details see: <a href="http://katalog.we-online.de/en/em/WTB_2_54_MALE_HORIZONTAL_SHROUDED_HEADER_GLOW_WIRE_PLASTIC_6610XXX1622">http://katalog.we-online.de/en/em/WTB_2_54_MALE_HORIZONTAL_SHROUDED_HEADER_GLOW_WIRE_PLASTIC_6610XXX1622</a><p> / <br></b>2015 (C) Wurth Elektronik
footprint 66100821622
pins: 1, 2, 3, 4, 5 8, 6 7, 7 6, 8 5

## 66100821722
designator J?, comment <br><b> <br><b>WIRE TO BOARD CONNECTION - 2.54 MM - / SHROUDED HEADER - RIGHT ANGLE - GLOW WIRE PLASTIC - WR-WTB<br></b>=>ConWTB254 66100821722 / <br> / <br> / <br><b> Characteristics / <br><br></b></b>INSULATOR: PA46G15 / <br>FLAMMABILITY RATING: UL94V0 / <br>COLOR: BLACK / <br>METAL: PHOSPHOR BRONZE / <br>PLATING: TIN OVER Ni / <br>QUALITY CLASS: 25 MATING CYCLES / <br>OPERATING TEMPERATURE:-40°C UP TO +125°C / <br>COMPLIANCE: LEAD FREE AND ROHS / <br> / <br> / <br> / <br><b> ELECTRICAL / <br><br></b></b>CURRENT RATING: 3 A / <br>WORKING VOLTAGE: 50 VAC / <br>WITHSTANDING VOLTAGE: 500 VAC/MIN / <br>INSULATION RESISTANCE: >1000 MΩ / <br>CONTACT RESISTANCE: 20 mΩ MAX / <br> / <br> / <br><a href="http://katalog.we-online.de/media/images/v2/Family_WR-WTB_Vertical_Shrouded_Header_6610xx11722_2.jpg" title="Enlarge picture"> / <img src="http://katalog.we-online.de/media/images/v2/Family_WR-WTB_Vertical_Shrouded_Header_6610xx11722_2.jpg"  width="320"></a><p> / Details see: <a href="http://katalog.we-online.de/en/em/WTB_2_54_MALE_VERTICAL_SHROUDED_HEADER_GLOW_WIRE_PLASTIC_6610XXX1722">http://katalog.we-online.de/en/em/WTB_2_54_MALE_VERTICAL_SHROUDED_HEADER_GLOW_WIRE_PLASTIC_6610XXX1722</a><p> / <br></b>2015 (C) Wurth Elektronik
footprint 66100821722
pins: 1, 2, 3, 4, 5 8, 6 7, 7 6, 8 5

## 66100911622
designator J?, comment <br><b> <br><b>WIRE TO BOARD CONNECTION - 2.54 MM - / SHROUDED HEADER - STRAIGHT - GLOW WIRE PLASTIC - WR-WTB<br></b>=>ConWTB254 661009116222 / <br> / <br> / <br><b> Characteristics / <br><br></b></b>INSULATOR: PA46G15 / <br>FLAMMABILITY RATING: UL94V0 / <br>COLOR: BLACK / <br>METAL: PHOSPHOR BRONZE / <br>PLATING: TIN OVER Ni / <br>QUALITY CLASS: 25 MATING CYCLES / <br>OPERATING TEMPERATURE:-40°C UP TO +125°C / <br>COMPLIANCE: LEAD FREE AND ROHS / <br> / <br> / <br> / <br><b> ELECTRICAL / <br><br></b></b>CURRENT RATING: 3 A / <br>WORKING VOLTAGE: 50 VAC / <br>WITHSTANDING VOLTAGE: 500 VAC/MIN / <br>INSULATION RESISTANCE: >1000 MΩ / <br>CONTACT RESISTANCE: 20 mΩ MAX / <br> / <br><br><br><a href="http://katalog.we-online.de/media/images/v2/Family_WR-WTB_6610xx11622_2%2054.jpg" title="Enlarge picture"> / <img src="http://katalog.we-online.de/media/images/v2/Family_WR-WTB_6610xx11622_2%2054.jpg"  width="320"></a><p> / <br> / <br>Details see: <a href="http://katalog.we-online.de/en/em/WTB_2_54_MALE_HORIZONTAL_SHROUDED_HEADER_GLOW_WIRE_PLASTIC_6610XXX1622">http://katalog.we-online.de/en/em/WTB_2_54_MALE_HORIZONTAL_SHROUDED_HEADER_GLOW_WIRE_PLASTIC_6610XXX1622</a><p> / <br></b>2015 (C) Wurth Elektronik
footprint 66100911622
pins: 1, 2, 3, 4, 5, 6, 7, 8, 9

## 66100911722
designator J?, comment <br><b> <br><b>WIRE TO BOARD CONNECTION - 2.54 MM - / SHROUDED HEADER - RIGHT ANGLE - GLOW WIRE PLASTIC - WR-WTB<br></b>=>ConWTB254 66100911722 / <br> / <br> / <br><b> Characteristics / <br><br></b></b>INSULATOR: PA46G15 / <br>FLAMMABILITY RATING: UL94V0 / <br>COLOR: BLACK / <br>METAL: PHOSPHOR BRONZE / <br>PLATING: TIN OVER Ni / <br>QUALITY CLASS: 25 MATING CYCLES / <br>OPERATING TEMPERATURE:-40°C UP TO +125°C / <br>COMPLIANCE: LEAD FREE AND ROHS / <br> / <br> / <br> / <br><b> ELECTRICAL / <br><br></b></b>CURRENT RATING: 3 A / <br>WORKING VOLTAGE: 50 VAC / <br>WITHSTANDING VOLTAGE: 500 VAC/MIN / <br>INSULATION RESISTANCE: >1000 MΩ / <br>CONTACT RESISTANCE: 20 mΩ MAX / <br> / <br> / <br><a href="http://katalog.we-online.de/media/images/v2/Family_WR-WTB_Vertical_Shrouded_Header_6610xx11722_2.jpg" title="Enlarge picture"> / <img src="http://katalog.we-online.de/media/images/v2/Family_WR-WTB_Vertical_Shrouded_Header_6610xx11722_2.jpg"  width="320"></a><p> / Details see: <a href="http://katalog.we-online.de/en/em/WTB_2_54_MALE_VERTICAL_SHROUDED_HEADER_GLOW_WIRE_PLASTIC_6610XXX1722">http://katalog.we-online.de/en/em/WTB_2_54_MALE_VERTICAL_SHROUDED_HEADER_GLOW_WIRE_PLASTIC_6610XXX1722</a><p> / <br></b>2015 (C) Wurth Elektronik
footprint 66100911722
pins: 1, 2, 3, 4, 5, 6, 7, 8, 9

## 66101011622
designator J?, comment <br><b> <br><b>WIRE TO BOARD CONNECTION - 2.54 MM - / SHROUDED HEADER - STRAIGHT - GLOW WIRE PLASTIC - WR-WTB<br></b>=>ConWTB254 661010116222 / <br> / <br> / <br><b> Characteristics / <br><br></b></b>INSULATOR: PA46G15 / <br>FLAMMABILITY RATING: UL94V0 / <br>COLOR: BLACK / <br>METAL: PHOSPHOR BRONZE / <br>PLATING: TIN OVER Ni / <br>QUALITY CLASS: 25 MATING CYCLES / <br>OPERATING TEMPERATURE:-40°C UP TO +125°C / <br>COMPLIANCE: LEAD FREE AND ROHS / <br> / <br> / <br> / <br><b> ELECTRICAL / <br><br></b></b>CURRENT RATING: 3 A / <br>WORKING VOLTAGE: 50 VAC / <br>WITHSTANDING VOLTAGE: 500 VAC/MIN / <br>INSULATION RESISTANCE: >1000 MΩ / <br>CONTACT RESISTANCE: 20 mΩ MAX / <br> / <br><br><br><a href="http://katalog.we-online.de/media/images/v2/Family_WR-WTB_6610xx11622_2%2054.jpg" title="Enlarge picture"> / <img src="http://katalog.we-online.de/media/images/v2/Family_WR-WTB_6610xx11622_2%2054.jpg"  width="320"></a><p> / <br> / <br>Details see: <a href="http://katalog.we-online.de/en/em/WTB_2_54_MALE_HORIZONTAL_SHROUDED_HEADER_GLOW_WIRE_PLASTIC_6610XXX1622">http://katalog.we-online.de/en/em/WTB_2_54_MALE_HORIZONTAL_SHROUDED_HEADER_GLOW_WIRE_PLASTIC_6610XXX1622</a><p> / <br></b>2015 (C) Wurth Elektronik
footprint 66101011622
pins: 1, 2, 3, 4, 5, 6, 7, 8, 9, 10

## 66101011722
designator J?, comment <br><b> <br><b>WIRE TO BOARD CONNECTION - 2.54 MM - / SHROUDED HEADER - RIGHT ANGLE - GLOW WIRE PLASTIC - WR-WTB<br></b>=>ConWTB254 66101011722 / <br> / <br> / <br><b> Characteristics / <br><br></b></b>INSULATOR: PA46G15 / <br>FLAMMABILITY RATING: UL94V0 / <br>COLOR: BLACK / <br>METAL: PHOSPHOR BRONZE / <br>PLATING: TIN OVER Ni / <br>QUALITY CLASS: 25 MATING CYCLES / <br>OPERATING TEMPERATURE:-40°C UP TO +125°C / <br>COMPLIANCE: LEAD FREE AND ROHS / <br> / <br> / <br> / <br><b> ELECTRICAL / <br><br></b></b>CURRENT RATING: 3 A / <br>WORKING VOLTAGE: 50 VAC / <br>WITHSTANDING VOLTAGE: 500 VAC/MIN / <br>INSULATION RESISTANCE: >1000 MΩ / <br>CONTACT RESISTANCE: 20 mΩ MAX / <br> / <br> / <br><a href="http://katalog.we-online.de/media/images/v2/Family_WR-WTB_Vertical_Shrouded_Header_6610xx11722_2.jpg" title="Enlarge picture"> / <img src="http://katalog.we-online.de/media/images/v2/Family_WR-WTB_Vertical_Shrouded_Header_6610xx11722_2.jpg"  width="320"></a><p> / Details see: <a href="http://katalog.we-online.de/en/em/WTB_2_54_MALE_VERTICAL_SHROUDED_HEADER_GLOW_WIRE_PLASTIC_6610XXX1722">http://katalog.we-online.de/en/em/WTB_2_54_MALE_VERTICAL_SHROUDED_HEADER_GLOW_WIRE_PLASTIC_6610XXX1722</a><p> / <br></b>2015 (C) Wurth Elektronik
footprint 66101011722
pins: 1, 2, 3, 4, 5, 6, 7, 8, 9, 10

## 66101021622
designator J?, comment <br><b> <br><b>WIRE TO BOARD CONNECTION - 2.54 MM - / SHROUDED HEADER - STRAIGHT - GLOW WIRE PLASTIC - WR-WTB<br></b>=>ConWTB254 66101021622 / <br> / <br> / <br><b> Characteristics / <br><br></b></b>INSULATOR: PA46G15 / <br>FLAMMABILITY RATING: UL94V0 / <br>COLOR: BLACK / <br>METAL: PHOSPHOR BRONZE / <br>PLATING: TIN OVER Ni / <br>QUALITY CLASS: 25 MATING CYCLES / <br>OPERATING TEMPERATURE:-40°C UP TO +125°C / <br>COMPLIANCE: LEAD FREE AND ROHS / <br> / <br> / <br> / <br><b> ELECTRICAL / <br><br></b></b>CURRENT RATING: 3 A / <br>WORKING VOLTAGE: 50 VAC / <br>WITHSTANDING VOLTAGE: 500 VAC/MIN / <br>INSULATION RESISTANCE: >1000 MΩ / <br>CONTACT RESISTANCE: 20 mΩ MAX / <br><br><br><a href="http://katalog.we-online.de/media/images/v2/Family_WR-WTB_6610xx11622_2%2054.jpg" title="Enlarge picture"> / <img src="http://katalog.we-online.de/media/images/v2/Family_WR-WTB_6610xx11622_2%2054.jpg"  width="320"></a><p> / <br> / <br> / <br>Details see: <a href="http://katalog.we-online.de/en/em/WTB_2_54_MALE_HORIZONTAL_SHROUDED_HEADER_GLOW_WIRE_PLASTIC_6610XXX1622">http://katalog.we-online.de/en/em/WTB_2_54_MALE_HORIZONTAL_SHROUDED_HEADER_GLOW_WIRE_PLASTIC_6610XXX1622</a><p> / <br></b>2015 (C) Wurth Elektronik
footprint 66101021622
pins: 1, 2, 3, 4, 5, 6 10, 7 9, 8, 9 7, 10 6

## 66101021722
designator J?, comment <br><b> <br><b>WIRE TO BOARD CONNECTION - 2.54 MM - / SHROUDED HEADER - RIGHT ANGLE - GLOW WIRE PLASTIC - WR-WTB<br></b>=>ConWTB254 66101021722 / <br> / <br> / <br><b> Characteristics / <br><br></b></b>INSULATOR: PA46G15 / <br>FLAMMABILITY RATING: UL94V0 / <br>COLOR: BLACK / <br>METAL: PHOSPHOR BRONZE / <br>PLATING: TIN OVER Ni / <br>QUALITY CLASS: 25 MATING CYCLES / <br>OPERATING TEMPERATURE:-40°C UP TO +125°C / <br>COMPLIANCE: LEAD FREE AND ROHS / <br> / <br> / <br> / <br><b> ELECTRICAL / <br><br></b></b>CURRENT RATING: 3 A / <br>WORKING VOLTAGE: 50 VAC / <br>WITHSTANDING VOLTAGE: 500 VAC/MIN / <br>INSULATION RESISTANCE: >1000 MΩ / <br>CONTACT RESISTANCE: 20 mΩ MAX / <br> / <br> / <br><a href="http://katalog.we-online.de/media/images/v2/Family_WR-WTB_Vertical_Shrouded_Header_6610xx11722_2.jpg" title="Enlarge picture"> / <img src="http://katalog.we-online.de/media/images/v2/Family_WR-WTB_Vertical_Shrouded_Header_6610xx11722_2.jpg"  width="320"></a><p> / Details see: <a href="http://katalog.we-online.de/en/em/WTB_2_54_MALE_VERTICAL_SHROUDED_HEADER_GLOW_WIRE_PLASTIC_6610XXX1722">http://katalog.we-online.de/en/em/WTB_2_54_MALE_VERTICAL_SHROUDED_HEADER_GLOW_WIRE_PLASTIC_6610XXX1722</a><p> / <br></b>2015 (C) Wurth Elektronik
footprint 66101021722
pins: 1, 2, 3, 4, 5, 6 10, 7 9, 8, 9 7, 10 6

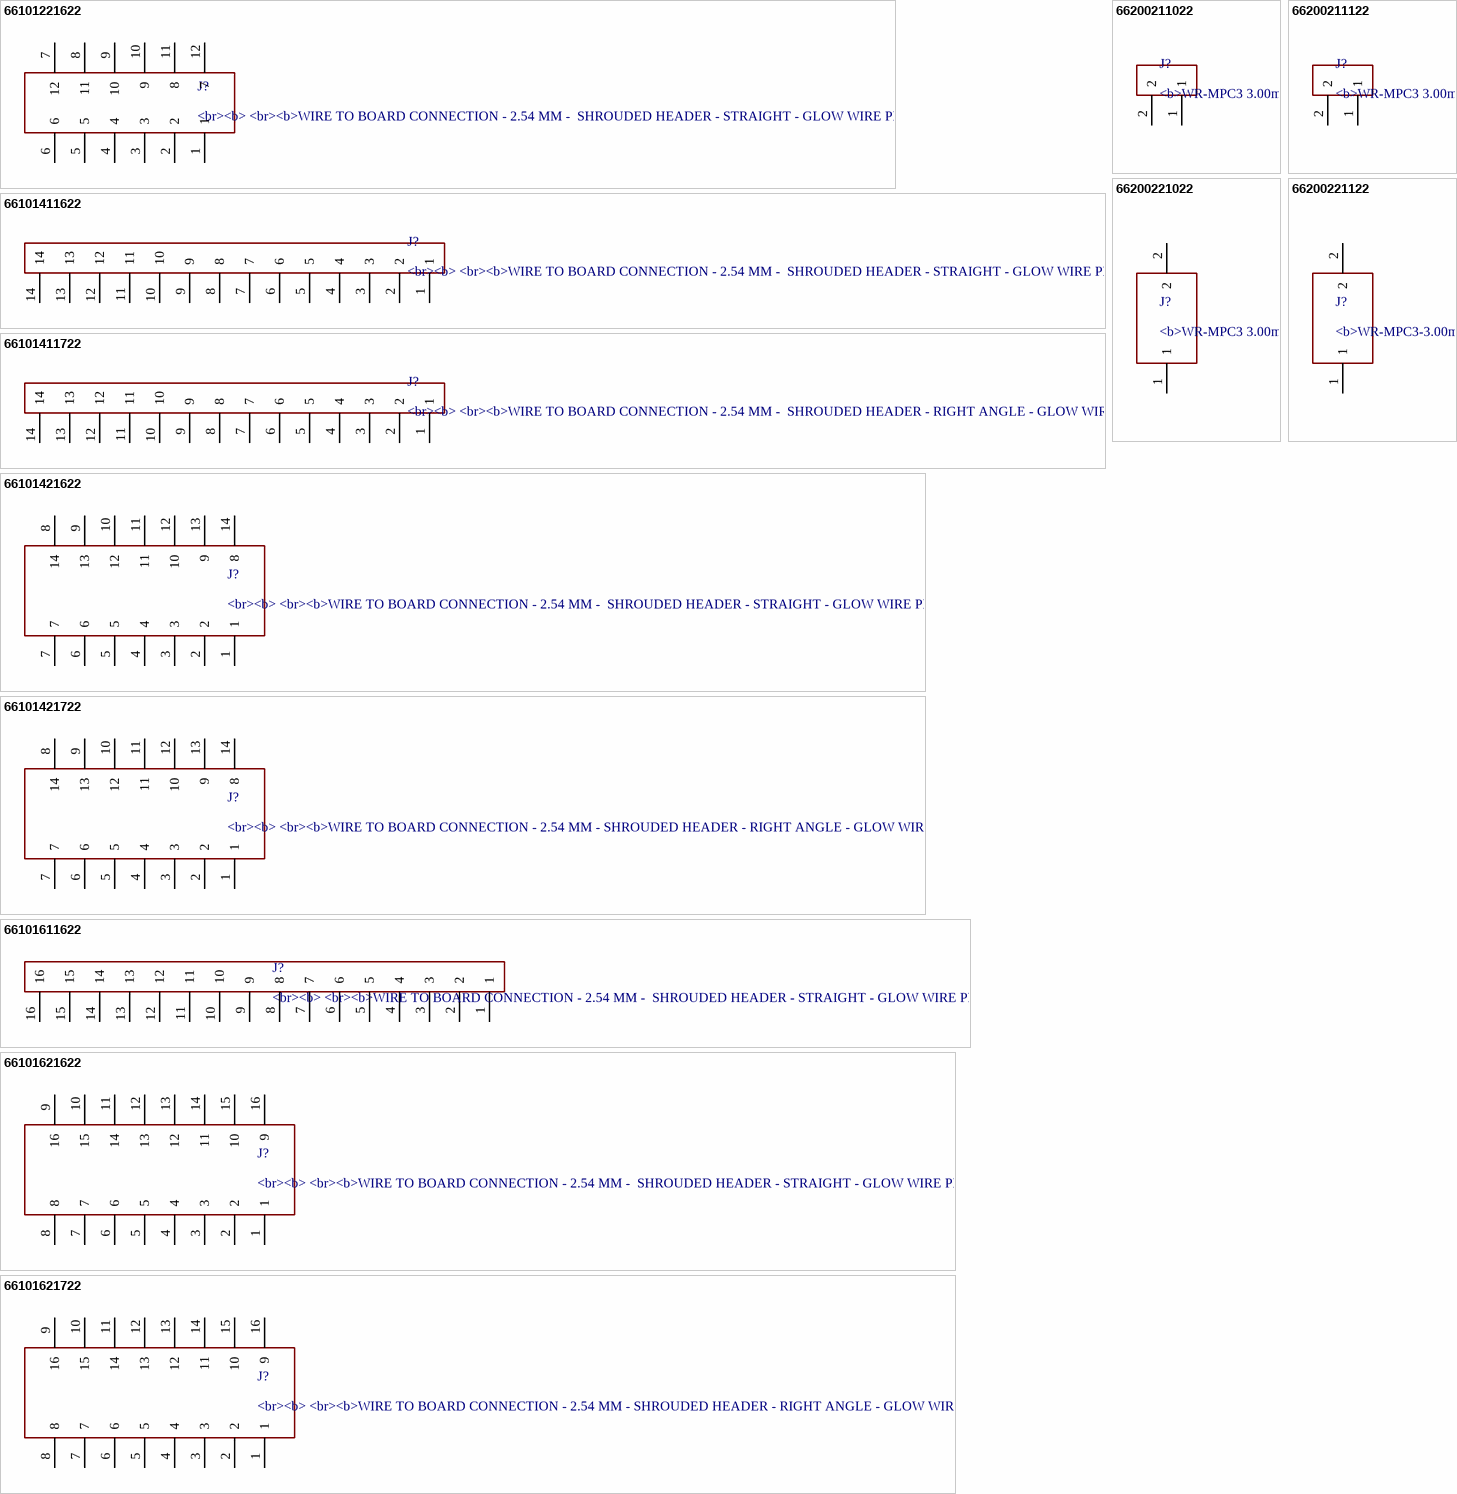
[diagram p31: symbols 66101221622 to 66200221122]

## 66101221622
designator J?, comment <br><b> <br><b>WIRE TO BOARD CONNECTION - 2.54 MM - / SHROUDED HEADER - STRAIGHT - GLOW WIRE PLASTIC - WR-WTB<br></b>=>ConWTB254 66101221622 / <br> / <br> / <br><b> Characteristics / <br><br></b></b>INSULATOR: PA46G15 / <br>FLAMMABILITY RATING: UL94V0 / <br>COLOR: BLACK / <br>METAL: PHOSPHOR BRONZE / <br>PLATING: TIN OVER Ni / <br>QUALITY CLASS: 25 MATING CYCLES / <br>OPERATING TEMPERATURE:-40°C UP TO +125°C / <br>COMPLIANCE: LEAD FREE AND ROHS / <br> / <br> / <br> / <br><b> ELECTRICAL / <br><br></b></b>CURRENT RATING: 3 A / <br>WORKING VOLTAGE: 50 VAC / <br>WITHSTANDING VOLTAGE: 500 VAC/MIN / <br>INSULATION RESISTANCE: >1000 MΩ / <br>CONTACT RESISTANCE: 20 mΩ MAX / <br> / <br> / <br>Details see: <a href="http://katalog.we-online.de/en/em/WTB_2_54_MALE_HORIZONTAL_SHROUDED_HEADER_GLOW_WIRE_PLASTIC_6610XXX1622">http://katalog.we-online.de/en/em/WTB_2_54_MALE_HORIZONTAL_SHROUDED_HEADER_GLOW_WIRE_PLASTIC_6610XXX1622</a><p> / <br></b>2015 (C) Wurth Elektronik
footprint 66101221622
pins: 1, 2, 3, 4, 5, 6, 7 12, 8 11, 9 10, 10 9, 11 8, 12 7

## 66101411622
designator J?, comment <br><b> <br><b>WIRE TO BOARD CONNECTION - 2.54 MM - / SHROUDED HEADER - STRAIGHT - GLOW WIRE PLASTIC - WR-WTB<br></b>=>ConWTB254 661014116222 / <br> / <br> / <br><b> Characteristics / <br><br></b></b>INSULATOR: PA46G15 / <br>FLAMMABILITY RATING: UL94V0 / <br>COLOR: BLACK / <br>METAL: PHOSPHOR BRONZE / <br>PLATING: TIN OVER Ni / <br>QUALITY CLASS: 25 MATING CYCLES / <br>OPERATING TEMPERATURE:-40°C UP TO +125°C / <br>COMPLIANCE: LEAD FREE AND ROHS / <br> / <br> / <br> / <br><b> ELECTRICAL / <br><br></b></b>CURRENT RATING: 3 A / <br>WORKING VOLTAGE: 50 VAC / <br>WITHSTANDING VOLTAGE: 500 VAC/MIN / <br>INSULATION RESISTANCE: >1000 MΩ / <br>CONTACT RESISTANCE: 20 mΩ MAX / <br><br><br> / <br> / <br>Details see: <a href="http://katalog.we-online.de/en/em/WTB_2_54_MALE_HORIZONTAL_SHROUDED_HEADER_GLOW_WIRE_PLASTIC_6610XXX1622">http://katalog.we-online.de/en/em/WTB_2_54_MALE_HORIZONTAL_SHROUDED_HEADER_GLOW_WIRE_PLASTIC_6610XXX1622</a><p> / <br></b>2015 (C) Wurth Elektronik
footprint 66101411622
pins: 1, 2, 3, 4, 5, 6, 7, 8, 9, 10, 11, 12, 13, 14 (hiz)

## 66101411722
designator J?, comment <br><b> <br><b>WIRE TO BOARD CONNECTION - 2.54 MM - / SHROUDED HEADER - RIGHT ANGLE - GLOW WIRE PLASTIC - WR-WTB<br></b>=>ConWTB254 66101411722 / <br> / <br> / <br><b> Characteristics / <br><br></b></b>INSULATOR: PA46G15 / <br>FLAMMABILITY RATING: UL94V0 / <br>COLOR: BLACK / <br>METAL: PHOSPHOR BRONZE / <br>PLATING: TIN OVER Ni / <br>QUALITY CLASS: 25 MATING CYCLES / <br>OPERATING TEMPERATURE:-40°C UP TO +125°C / <br>COMPLIANCE: LEAD FREE AND ROHS / <br> / <br> / <br> / <br><b> ELECTRICAL / <br><br></b></b>CURRENT RATING: 3 A / <br>WORKING VOLTAGE: 50 VAC / <br>WITHSTANDING VOLTAGE: 500 VAC/MIN / <br>INSULATION RESISTANCE: >1000 MΩ / <br>CONTACT RESISTANCE: 20 mΩ MAX / <br> / <br> / <br><a href="http://katalog.we-online.de/media/images/v2/Family_WR-WTB_Vertical_Shrouded_Header_6610xx11722_2.jpg" title="Enlarge picture"> / <img src="http://katalog.we-online.de/media/images/v2/Family_WR-WTB_Vertical_Shrouded_Header_6610xx11722_2.jpg"  width="320"></a><p> / Details see: <a href="http://katalog.we-online.de/en/em/WTB_2_54_MALE_VERTICAL_SHROUDED_HEADER_GLOW_WIRE_PLASTIC_6610XXX1722">http://katalog.we-online.de/en/em/WTB_2_54_MALE_VERTICAL_SHROUDED_HEADER_GLOW_WIRE_PLASTIC_6610XXX1722</a><p> / <br></b>2015 (C) Wurth Elektronik
footprint 66101411722
pins: 1, 2, 3, 4, 5, 6, 7, 8, 9, 10, 11, 12, 13, 14 (hiz)

## 66101421622
designator J?, comment <br><b> <br><b>WIRE TO BOARD CONNECTION - 2.54 MM - / SHROUDED HEADER - STRAIGHT - GLOW WIRE PLASTIC - WR-WTB<br></b>=>ConWTB254 66101421622 / <br> / <br> / <br><b> Characteristics / <br><br></b></b>INSULATOR: PA46G15 / <br>FLAMMABILITY RATING: UL94V0 / <br>COLOR: BLACK / <br>METAL: PHOSPHOR BRONZE / <br>PLATING: TIN OVER Ni / <br>QUALITY CLASS: 25 MATING CYCLES / <br>OPERATING TEMPERATURE:-40°C UP TO +125°C / <br>COMPLIANCE: LEAD FREE AND ROHS / <br> / <br> / <br> / <br><b> ELECTRICAL / <br><br></b></b>CURRENT RATING: 3 A / <br>WORKING VOLTAGE: 50 VAC / <br>WITHSTANDING VOLTAGE: 500 VAC/MIN / <br>INSULATION RESISTANCE: >1000 MΩ / <br>CONTACT RESISTANCE: 20 mΩ MAX / <br> / <br><br><br><a href="http://katalog.we-online.de/media/images/v2/Family_WR-WTB_6610xx11622_2%2054.jpg" title="Enlarge picture"> / <img src="http://katalog.we-online.de/media/images/v2/Family_WR-WTB_6610xx11622_2%2054.jpg"  width="320"></a><p> / <br> / <br>Details see: <a href="http://katalog.we-online.de/en/em/WTB_2_54_MALE_HORIZONTAL_SHROUDED_HEADER_GLOW_WIRE_PLASTIC_6610XXX1622">http://katalog.we-online.de/en/em/WTB_2_54_MALE_HORIZONTAL_SHROUDED_HEADER_GLOW_WIRE_PLASTIC_6610XXX1622</a><p> / <br></b>2015 (C) Wurth Elektronik
footprint 66101421622
pins: 1, 2, 3, 4, 5, 6, 7, 8 14, 9 13, 10 12, 11, 12 10, 13 9, 14 8

## 66101421722
designator J?, comment <br><b> <br><b>WIRE TO BOARD CONNECTION - 2.54 MM - / SHROUDED HEADER - RIGHT ANGLE - GLOW WIRE PLASTIC - WR-WTB<br></b>=>ConWTB254 66101421722 / <br> / <br> / <br><b> Characteristics / <br><br></b></b>INSULATOR: PA46G15 / <br>FLAMMABILITY RATING: UL94V0 / <br>COLOR: BLACK / <br>METAL: PHOSPHOR BRONZE / <br>PLATING: TIN OVER Ni / <br>QUALITY CLASS: 25 MATING CYCLES / <br>OPERATING TEMPERATURE:-40°C UP TO +125°C / <br>COMPLIANCE: LEAD FREE AND ROHS / <br> / <br> / <br> / <br><b> ELECTRICAL / <br><br></b></b>CURRENT RATING: 3 A / <br>WORKING VOLTAGE: 50 VAC / <br>WITHSTANDING VOLTAGE: 500 VAC/MIN / <br>INSULATION RESISTANCE: >1000 MΩ / <br>CONTACT RESISTANCE: 20 mΩ MAX / <br> / <br> / <br><a href="http://katalog.we-online.de/media/images/v2/Family_WR-WTB_Vertical_Shrouded_Header_6610xx11722_2.jpg" title="Enlarge picture"> / <img src="http://katalog.we-online.de/media/images/v2/Family_WR-WTB_Vertical_Shrouded_Header_6610xx11722_2.jpg"  width="320"></a><p> / Details see: <a href="http://katalog.we-online.de/en/em/WTB_2_54_MALE_VERTICAL_SHROUDED_HEADER_GLOW_WIRE_PLASTIC_6610XXX1722">http://katalog.we-online.de/en/em/WTB_2_54_MALE_VERTICAL_SHROUDED_HEADER_GLOW_WIRE_PLASTIC_6610XXX1722</a><p> / <br></b>2015 (C) Wurth Elektronik
footprint 66101421722
pins: 1, 2, 3, 4, 5, 6, 7, 8 14, 9 13, 10 12, 11, 12 10, 13 9, 14 8

## 66101611622
designator J?, comment <br><b> <br><b>WIRE TO BOARD CONNECTION - 2.54 MM - / SHROUDED HEADER - STRAIGHT - GLOW WIRE PLASTIC - WR-WTB<br></b>=>ConWTB254 661016116222 / <br> / <br> / <br><b> Characteristics / <br><br></b></b>INSULATOR: PA46G15 / <br>FLAMMABILITY RATING: UL94V0 / <br>COLOR: BLACK / <br>METAL: PHOSPHOR BRONZE / <br>PLATING: TIN OVER Ni / <br>QUALITY CLASS: 25 MATING CYCLES / <br>OPERATING TEMPERATURE:-40°C UP TO +125°C / <br>COMPLIANCE: LEAD FREE AND ROHS / <br> / <br> / <br> / <br><b> ELECTRICAL / <br><br></b></b>CURRENT RATING: 3 A / <br>WORKING VOLTAGE: 50 VAC / <br>WITHSTANDING VOLTAGE: 500 VAC/MIN / <br>INSULATION RESISTANCE: >1000 MΩ / <br>CONTACT RESISTANCE: 20 mΩ MAX / <br> / <br>Details see: <a href="http://katalog.we-online.de/en/em/WTB_2_54_MALE_HORIZONTAL_SHROUDED_HEADER_GLOW_WIRE_PLASTIC_6610XXX1622">http://katalog.we-online.de/en/em/WTB_2_54_MALE_HORIZONTAL_SHROUDED_HEADER_GLOW_WIRE_PLASTIC_6610XXX1622</a><p> / <br></b>2015 (C) Wurth Elektronik
footprint 66101611622
pins: 1, 2 (hiz), 3, 4, 5, 6, 7, 8, 9, 10, 11, 12, 13, 14, 15, 16

## 66101621622
designator J?, comment <br><b> <br><b>WIRE TO BOARD CONNECTION - 2.54 MM - / SHROUDED HEADER - STRAIGHT - GLOW WIRE PLASTIC - WR-WTB<br></b>=>ConWTB254 66101621622 / <br> / <br> / <br><b> Characteristics / <br><br></b></b>INSULATOR: PA46G15 / <br>FLAMMABILITY RATING: UL94V0 / <br>COLOR: BLACK / <br>METAL: PHOSPHOR BRONZE / <br>PLATING: TIN OVER Ni / <br>QUALITY CLASS: 25 MATING CYCLES / <br>OPERATING TEMPERATURE:-40°C UP TO +125°C / <br>COMPLIANCE: LEAD FREE AND ROHS / <br> / <br> / <br> / <br><b> ELECTRICAL / <br><br></b></b>CURRENT RATING: 3 A / <br>WORKING VOLTAGE: 50 VAC / <br>WITHSTANDING VOLTAGE: 500 VAC/MIN / <br>INSULATION RESISTANCE: >1000 MΩ / <br>CONTACT RESISTANCE: 20 mΩ MAX / <br> / <br><br><br><a href="http://katalog.we-online.de/media/images/v2/Family_WR-WTB_6610xx11622_2%2054.jpg" title="Enlarge picture"> / <img src="http://katalog.we-online.de/media/images/v2/Family_WR-WTB_6610xx11622_2%2054.jpg"  width="320"></a><p> / <br> / <br> / <br>Details see: <a href="http://katalog.we-online.de/en/em/WTB_2_54_MALE_HORIZONTAL_SHROUDED_HEADER_GLOW_WIRE_PLASTIC_6610XXX1622">http://katalog.we-online.de/en/em/WTB_2_54_MALE_HORIZONTAL_SHROUDED_HEADER_GLOW_WIRE_PLASTIC_6610XXX1622</a><p> / <br></b>2015 (C) Wurth Elektronik
footprint 66101621622
pins: 1, 2, 3, 4, 5, 6, 7, 8, 9 16, 10 15, 11 14, 12 13, 13 12, 14 11, 15 10, 16 9

## 66101621722
designator J?, comment <br><b> <br><b>WIRE TO BOARD CONNECTION - 2.54 MM - / SHROUDED HEADER - RIGHT ANGLE - GLOW WIRE PLASTIC - WR-WTB<br></b>=>ConWTB254 66101621722 / <br> / <br> / <br><b> Characteristics / <br><br></b></b>INSULATOR: PA46G15 / <br>FLAMMABILITY RATING: UL94V0 / <br>COLOR: BLACK / <br>METAL: PHOSPHOR BRONZE / <br>PLATING: TIN OVER Ni / <br>QUALITY CLASS: 25 MATING CYCLES / <br>OPERATING TEMPERATURE:-40°C UP TO +125°C / <br>COMPLIANCE: LEAD FREE AND ROHS / <br> / <br> / <br> / <br><b> ELECTRICAL / <br><br></b></b>CURRENT RATING: 3 A / <br>WORKING VOLTAGE: 50 VAC / <br>WITHSTANDING VOLTAGE: 500 VAC/MIN / <br>INSULATION RESISTANCE: >1000 MΩ / <br>CONTACT RESISTANCE: 20 mΩ MAX / <br> / <br> / <br><a href="http://katalog.we-online.de/media/images/v2/Family_WR-WTB_Vertical_Shrouded_Header_6610xx11722_2.jpg" title="Enlarge picture"> / <img src="http://katalog.we-online.de/media/images/v2/Family_WR-WTB_Vertical_Shrouded_Header_6610xx11722_2.jpg"  width="320"></a><p> / Details see: <a href="http://katalog.we-online.de/en/em/WTB_2_54_MALE_VERTICAL_SHROUDED_HEADER_GLOW_WIRE_PLASTIC_6610XXX1722">http://katalog.we-online.de/en/em/WTB_2_54_MALE_VERTICAL_SHROUDED_HEADER_GLOW_WIRE_PLASTIC_6610XXX1722</a><p> / <br></b>2015 (C) Wurth Elektronik
footprint 66101621722
pins: 1, 2, 3, 4, 5, 6, 7, 8, 9 16, 10 15, 11 14, 12 13, 13 12, 14 11, 15 10, 16 9

## 66200211022
designator J?, comment <b>WR-MPC3 3.00mm Male Single Row Angled Header with Plastic Pegs, 2 Pins</b>=>Code : Con_WTB_MPC3_1_PCB_66200211022 / <br><a href="http://katalog.we-online.de/media/thumbs2/eican/thb_Con_WTB_MPC3_1_PCB_6620xx11022_pf2.jpg" title="Enlarge picture"> / <img src="http://katalog.we-online.de/media/thumbs2/eican/thb_Con_WTB_MPC3_1_PCB_6620xx11022_pf2.jpg"  width="320"></a><p> / Details see: <a href="http://katalog.we-online.de/en/em/662_0xx_110_22">http://katalog.we-online.de/en/em/662_0xx_110_22</a><p> / Created 2014-06-06, Karrer Zheng<br> / 2014 (C) Würth Elektronik
footprint 66200211022
pins: 1, 2

## 66200211122
designator J?, comment <b>WR-MPC3 3.00mm Male Single Row Vertical Header, 2 Pins</b>=>Code : Con_WTB_MPC3_1_PCB_66200211122 / <br><a href="http://katalog.we-online.de/media/thumbs2/eican/thb_Con_WTB_MPC3_1_PCB_6620xx11122_pf2.jpg" title="Enlarge picture"> / <img src="http://katalog.we-online.de/media/thumbs2/eican/thb_Con_WTB_MPC3_1_PCB_6620xx11122_pf2.jpg"  width="320"></a><p> / Details see: <a href="http://katalog.we-online.de/en/em/662_0xx_111_22">http://katalog.we-online.de/en/em/662_0xx_111_22</a><p> / Created 2014-06-06, Karrer Zheng<br> / 2014 (C) Würth Elektronik
footprint 66200211122
pins: 1, 2

## 66200221022
designator J?, comment <b>WR-MPC3 3.00mm Male Dual Row Angled Header with Plastic Pegs, 2 Pins</b>=>Code : Con_WTB-MPC3_2_PCB_THT862200221022 / <br><a href="http://katalog.we-online.de/media/thumbs2/eican/thb_Con_WTB-MPC3_2_PCB_THT86220xx21022_pf2.jpg" title="Enlarge picture"> / <img src="http://katalog.we-online.de/media/thumbs2/eican/thb_Con_WTB-MPC3_2_PCB_THT86220xx21022_pf2.jpg"  width="320"></a><p> / Details see: <a href="http://katalog.we-online.de/en/em/662_0xx_210_22">http://katalog.we-online.de/en/em/662_0xx_210_22</a><p> / Created 2014-06-06, Karrer Zheng<br> / 2014 (C) Würth Elektronik
footprint 66200221022
pins: 1, 2